# Altium footprint library Connector Footprints.PcbLib: 89 footprints (part 2 of 6)
Each footprint in its own frame and in the unit in brackets; x right, y up, seen from the top. Pads: shape width x height; smd on the part's side, far side on the other; paste and mask are expansions set on the pad; w line width, h text height; cw(c..) or ccw(c..) is an arc to the next point about the centre after c.
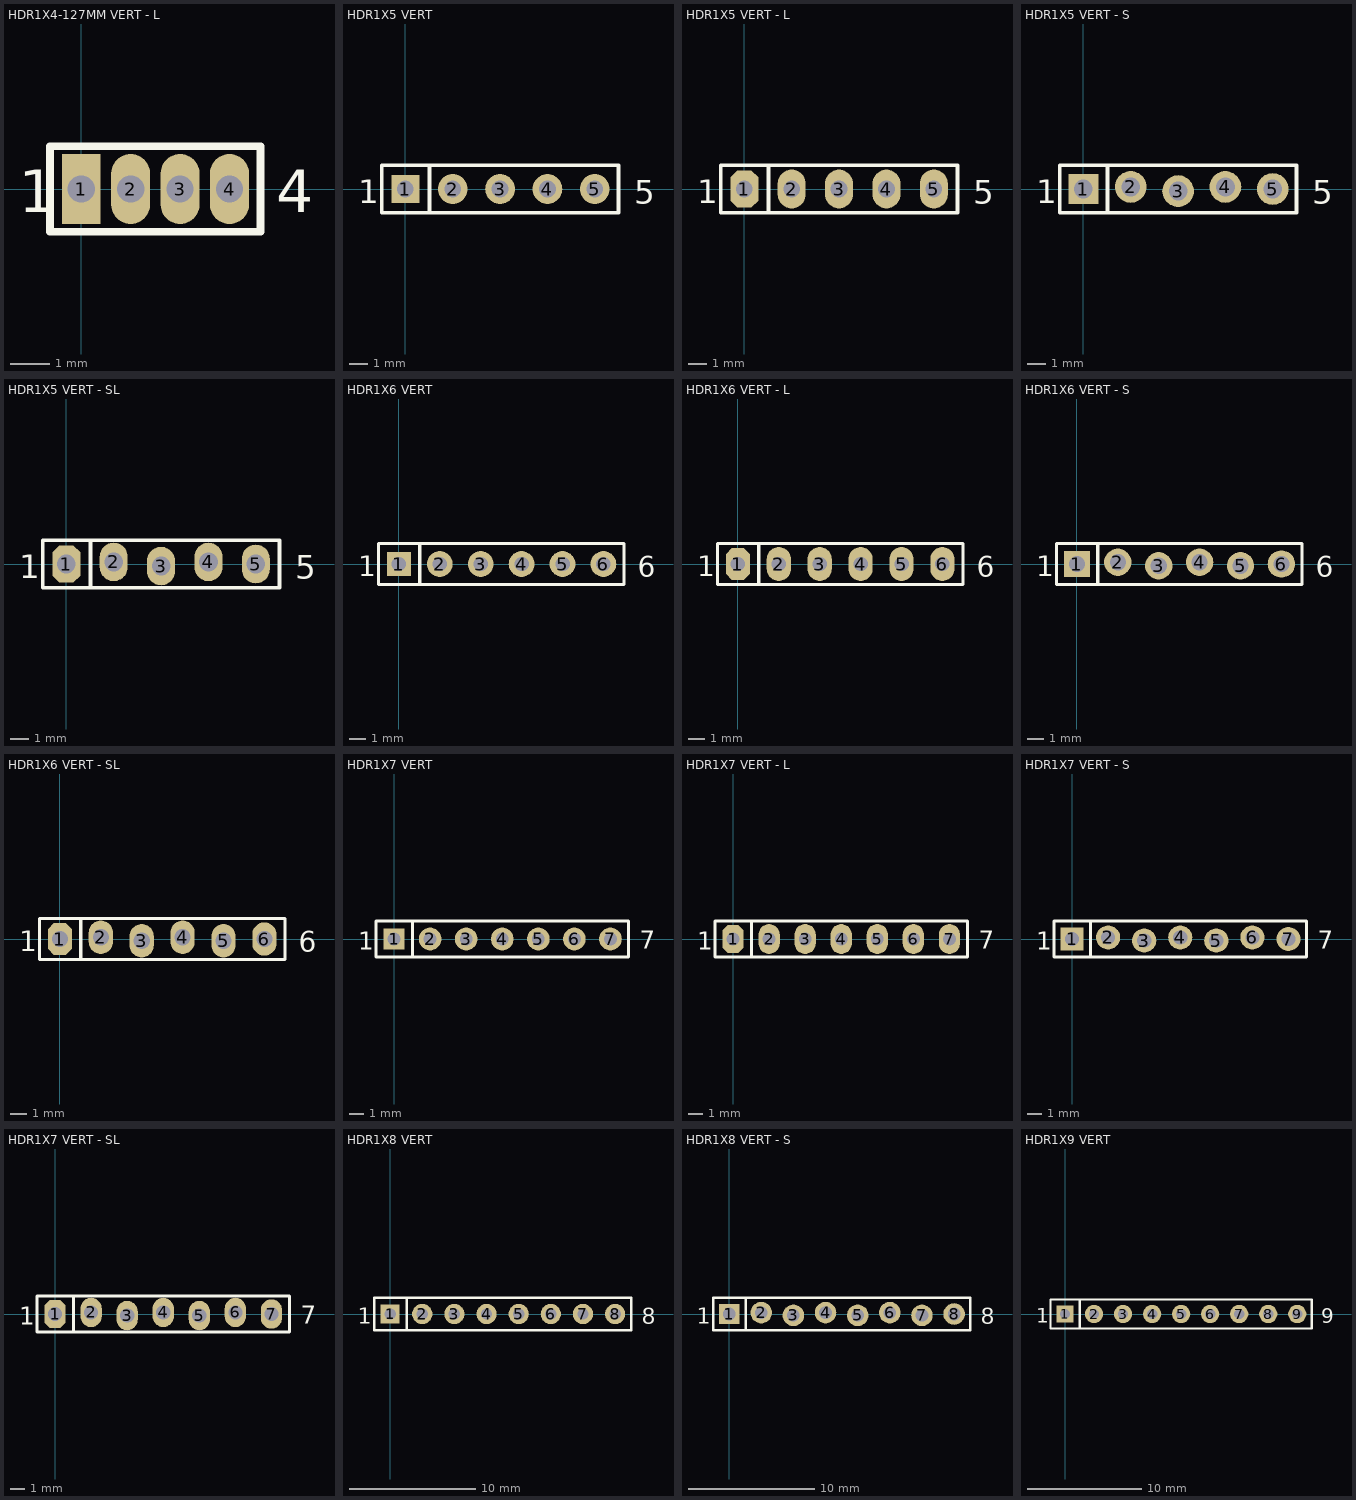
[diagram p1: the footprints below, top view; thin cyan lines are the x and y axes]

## HDR1X4-127MM VERT - L [mm] "Connector; Header; 4 Position; 1.27mm Pitch;Vertical Mount"
pads (4):
  rect 1x1.8 hole 0.7: 1(0,0)
  oval 1x1.8 hole 0.7: 2(1.27,0) 3(2.54,0) 4(3.81,0)
Top Overlay:
  lines w0.2: -0.8,-1.1 -0.8,1.1 4.61,1.1 4.61,-1.1 -0.8,-1.1
  text "1" at -1.6,-0.6 h1.1
  text "4" at 5.01,-0.6 h1.1

## HDR1X5 VERT [mm] "Connector; Header; 5 Position; Vertical Mount"
pads (5):
  rect 1.5x1.5 hole 0.9: 1(0,0)
  round 1.6 hole 0.9: 2(2.54,0) 3(5.08,0) 4(7.62,0) 5(10.16,0)
Top Overlay:
  lines w0.2: 1.3,-1.27 1.3,1.27 ; -1.27,-1.27 11.43,-1.27 11.43,1.27 -1.27,1.27 -1.27,-1.27
  text "5" at 12.28,-0.8 h1.27
  text "1" at -2.54,-0.762 h1.27
3D body "61300511121.stp": height 8.77, standoff -2.77, extent -1.275,-1.27 11.425,1.27

## HDR1X5 VERT - L [mm] "Connector; Header; 5 Position; Vertical Mount"
pads (5):
  oct 1.5x2 hole 0.9: 1(0,0)
  oval 1.5x2.1 hole 0.9: 2(2.54,0) 3(5.08,0) 4(7.62,0) 5(10.16,0)
Top Overlay:
  lines w0.2: 1.3,-1.27 1.3,1.27 ; -1.27,-1.27 11.43,-1.27 11.43,1.27 -1.27,1.27 -1.27,-1.27
  text "5" at 12.28,-0.8 h1.27
  text "1" at -2.54,-0.762 h1.27
3D body "61300511121.stp": height 8.77, standoff -2.77, extent -1.275,-1.27 11.425,1.27

## HDR1X5 VERT - S [mm] "Connector; Header; 5 Position; Vertical Mount"
pads (5):
  rect 1.6x1.6 hole 1: 1(0,0)
  round 1.7 hole 1: 2(2.54,0.11) 3(5.08,-0.11) 4(7.62,0.11) 5(10.16,0)
Top Overlay:
  lines w0.2: 1.3,-1.27 1.3,1.27 ; -1.27,-1.27 -1.27,1.27 11.43,1.27 11.43,-1.27 -1.27,-1.27
  text "1" at -2.54,-0.762 h1.27
  text "5" at 12.28,-0.8 h1.27
3D body "61300511121.stp": height 8.77, standoff -2.77, extent -1.275,-1.27 11.425,1.27

## HDR1X5 VERT - SL [mm] "Connector; Header; 5 Position; Vertical Mount"
pads (5):
  oct 1.5x2 hole 1: 1(0,0)
  oval 1.5x2.07 hole 1: 2(2.54,0.11) 3(5.08,-0.11) 4(7.62,0.11) 5(10.16,0)
Top Overlay:
  lines w0.2: 1.3,-1.27 1.3,1.27 ; -1.27,-1.27 -1.27,1.27 11.43,1.27 11.43,-1.27 -1.27,-1.27
  text "1" at -2.54,-0.762 h1.27
  text "5" at 12.28,-0.8 h1.27
3D body "61300511121.stp": height 8.77, standoff -2.77, extent -1.275,-1.27 11.425,1.27

## HDR1X6 VERT [mm] "Connector; Header; 6 Position; Vertical Mount"
pads (6):
  rect 1.5x1.5 hole 0.9: 1(0,0)
  round 1.6 hole 0.9: 2(2.54,0) 3(5.08,0) 4(7.62,0) 5(10.16,0) 6(12.7,0)
Top Overlay:
  lines w0.2: 1.3,-1.27 1.3,1.27 ; -1.27,-1.27 -1.27,1.27 13.97,1.27 13.97,-1.27 -1.27,-1.27
  text "1" at -2.54,-0.762 h1.27
  text "6" at 14.82,-0.8 h1.27
3D body "61300611121.stp": height 8.77, standoff -2.77, extent -1.245,-1.295 13.995,1.245

## HDR1X6 VERT - L [mm] "Connector; Header; 6 Position; Vertical Mount"
pads (6):
  oct 1.5x2 hole 0.9: 1(0,0)
  oval 1.5x2.1 hole 0.9: 2(2.54,0) 3(5.08,0) 4(7.62,0) 5(10.16,0) 6(12.7,0)
Top Overlay:
  lines w0.2: 1.3,-1.27 1.3,1.27 ; -1.27,-1.27 13.97,-1.27 13.97,1.27 -1.27,1.27 -1.27,-1.27
  text "6" at 14.82,-0.8 h1.27
  text "1" at -2.54,-0.762 h1.27
3D body "61300611121.stp": height 8.77, standoff -2.77, extent -1.245,-1.295 13.995,1.245

## HDR1X6 VERT - S [mm] "Connector; Header; 6 Position; Vertical Mount"
pads (6):
  rect 1.6x1.6 hole 1: 1(0,0)
  round 1.7 hole 1: 2(2.54,0.11) 3(5.08,-0.11) 4(7.62,0.11) 5(10.16,-0.11) 6(12.7,0)
Top Overlay:
  lines w0.2: 1.3,-1.27 1.3,1.27 ; -1.27,-1.27 -1.27,1.27 13.97,1.27 13.97,-1.27 -1.27,-1.27
  text "1" at -2.54,-0.762 h1.27
  text "6" at 14.82,-0.8 h1.27
3D body "61300611121.stp": height 8.77, standoff -2.77, extent -1.245,-1.295 13.995,1.245

## HDR1X6 VERT - SL [mm] "Connector; Header; 6 Position; Vertical Mount"
pads (6):
  oct 1.5x2 hole 1: 1(0,0)
  oval 1.5x2.07 hole 1: 2(2.54,0.11) 3(5.08,-0.11) 4(7.62,0.11) 5(10.16,-0.11) 6(12.7,0)
Top Overlay:
  lines w0.2: 1.3,-1.27 1.3,1.27 ; -1.27,-1.27 -1.27,1.27 13.97,1.27 13.97,-1.27 -1.27,-1.27
  text "1" at -2.54,-0.762 h1.27
  text "6" at 14.82,-0.8 h1.27
3D body "61300611121.stp": height 8.77, standoff -2.77, extent -1.245,-1.295 13.995,1.245

## HDR1X7 VERT [mm] "Connector; Header; 7 Position; Vertical Mount"
pads (7):
  rect 1.5x1.5 hole 0.9: 1(0,0)
  round 1.6 hole 0.9: 2(2.54,0) 3(5.08,0) 4(7.62,0) 5(10.16,0) 6(12.7,0) 7(15.24,0)
Top Overlay:
  lines w0.2: 1.3,-1.27 1.3,1.27 ; -1.27,-1.27 16.51,-1.27 16.51,1.27 -1.27,1.27 -1.27,-1.27
  text "1" at -2.54,-0.762 h1.27
  text "7" at 17.32,-0.7 h1.27
3D body "61300711121.stp": height 8.77, standoff -2.77, extent -1.24,-1.27 16.54,1.27

## HDR1X7 VERT - L [mm] "Connector; Header; 7 Position; Vertical Mount"
pads (7):
  oct 1.5x2 hole 0.9: 1(0,0)
  oval 1.5x2.1 hole 0.9: 2(2.54,0) 3(5.08,0) 4(7.62,0) 5(10.16,0) 6(12.7,0) 7(15.24,0)
Top Overlay:
  lines w0.2: 1.3,-1.27 1.3,1.27 ; -1.27,-1.27 -1.27,1.27 16.51,1.27 16.51,-1.27 -1.27,-1.27
  text "7" at 17.32,-0.7 h1.27
  text "1" at -2.54,-0.762 h1.27
3D body "61300711121.stp": height 8.77, standoff -2.77, extent -1.24,-1.27 16.54,1.27

## HDR1X7 VERT - S [mm] "Connector; Header; 7 Position; Vertical Mount"
pads (7):
  rect 1.6x1.6 hole 1: 1(0,0)
  round 1.7 hole 1: 2(2.54,0.11) 3(5.08,-0.11) 4(7.62,0.11) 5(10.16,-0.11) 6(12.7,0.11) 7(15.24,0)
Top Overlay:
  lines w0.2: 1.3,-1.27 1.3,1.27 ; -1.27,-1.27 16.51,-1.27 16.51,1.27 -1.27,1.27 -1.27,-1.27
  text "1" at -2.54,-0.762 h1.27
  text "7" at 17.32,-0.7 h1.27
3D body "61300711121.stp": height 8.77, standoff -2.77, extent -1.24,-1.27 16.54,1.27

## HDR1X7 VERT - SL [mm] "Connector; Header; 7 Position; Vertical Mount"
pads (7):
  oct 1.5x2 hole 1: 1(0,0)
  oval 1.5x2.07 hole 1: 2(2.54,0.11) 3(5.08,-0.11) 4(7.62,0.11) 5(10.16,-0.11) 6(12.7,0.11) 7(15.24,0)
Top Overlay:
  lines w0.2: 1.3,-1.27 1.3,1.27 ; -1.27,-1.27 16.51,-1.27 16.51,1.27 -1.27,1.27 -1.27,-1.27
  text "1" at -2.54,-0.762 h1.27
  text "7" at 17.32,-0.7 h1.27
3D body "61300711121.stp": height 8.77, standoff -2.77, extent -1.24,-1.27 16.54,1.27

## HDR1X8 VERT [mm] "Connector; Header; 8 Position; Vertical Mount"
pads (8):
  rect 1.5x1.5 hole 0.9: 1(0,0)
  round 1.6 hole 0.9: 2(2.54,0) 3(5.08,0) 4(7.62,0) 5(10.16,0) 6(12.7,0) 7(15.24,0) 8(17.78,0)
Top Overlay:
  lines w0.2: 1.3,-1.27 1.3,1.27 ; -1.27,-1.27 -1.27,1.27 19.05,1.27 19.05,-1.27 -1.27,-1.27
  text "1" at -2.54,-0.762 h1.27
  text "8" at 19.9,-0.8 h1.27
3D body "61300811121.stp": height 8.77, standoff -2.77, extent -1.27,-1.27 19.05,1.27

## HDR1X8 VERT - S [mm] "Connector; Header; 8 Position; Vertical Mount"
pads (8):
  rect 1.6x1.6 hole 1: 1(0,0)
  round 1.7 hole 1: 2(2.54,0.11) 3(5.08,-0.11) 4(7.62,0.11) 5(10.16,-0.11) 6(12.7,0.11) 7(15.24,-0.11) 8(17.78,0)
Top Overlay:
  lines w0.2: 1.3,-1.27 1.3,1.27 ; -1.27,-1.27 -1.27,1.27 19.05,1.27 19.05,-1.27 -1.27,-1.27
  text "1" at -2.54,-0.762 h1.27
  text "8" at 19.9,-0.8 h1.27
3D body "61300811121.stp": height 8.77, standoff -2.77, extent -1.27,-1.27 19.05,1.27

## HDR1X9 VERT [mm] "Connector; Header; 9 Position; Vertical Mount"
pads (9):
  rect 1.5x1.5 hole 0.9: 1(0,0)
  round 1.6 hole 0.9: 2(2.54,0) 3(5.08,0) 4(7.62,0) 5(10.16,0) 6(12.7,0) 7(15.24,0) 8(17.78,0) 9(20.32,0)
Top Overlay:
  lines w0.2: 1.3,-1.27 1.3,1.27 ; -1.27,-1.27 21.59,-1.27 21.59,1.27 -1.27,1.27 -1.27,-1.27
  text "1" at -2.54,-0.762 h1.27
  text "9" at 22.44,-0.8 h1.27